# Altium schematic symbol library Crystal.SchLib: 1 symbol
Pins are listed as number, name and electrical type; pins without a type are passive.

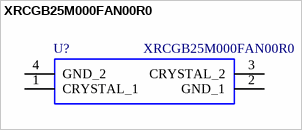
[diagram p0: symbol XRCGB25M000FAN00R0]

## XRCGB25M000FAN00R0
designator U?
25MHz 6pF ±25ppm SMD2016-4P Crystals ROHS
pins: 1 CRYSTAL_1, 2 GND_1, 3 CRYSTAL_2, 4 GND_2